# EAGLE library part CD4538BCM (library Fairchild_By_element14_Batch_1)
Dual Precision Monostable
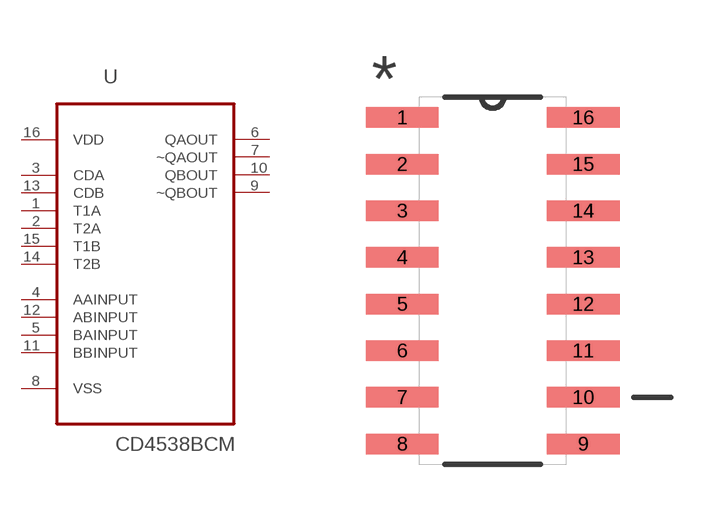
[diagram p172: symbol with the pads of SOIC127P600X175-16N; footprint SOIC127P600X175-16N]

Designator prefix U

## CD4538BCM (MPN: CD4538BCM; OC_FARNELL: -; OC_NEWARK: 82C1187; PACKAGE: SOIC-16; SUPPLIER: Fairchild)  [SOIC127P600X175-16N]
1  T1A  in
2  T2A  in
3  CDA  in
4  AAINPUT  in
5  BAINPUT  in
6  QAOUT  out
7  ~QAOUT  out
8  VSS  pwr
9  ~QBOUT  out
10  QBOUT  out
11  BBINPUT  in
12  ABINPUT  in
13  CDB  in
14  T2B  in
15  T1B  in
16  VDD  pwr

## Footprint SOIC127P600X175-16N (pad centres in mm)
smd 1.981 x 0.559: 1 -2.464,4.445; 2 -2.464,3.175; 3 -2.464,1.905; 4 -2.464,0.635; 5 -2.464,-0.635; 6 -2.464,-1.905; 7 -2.464,-3.175; 8 -2.464,-4.445; 9 2.464,-4.445; 10 2.464,-3.175; 11 2.464,-1.905; 12 2.464,-0.635; 13 2.464,0.635; 14 2.464,1.905; 15 2.464,3.175; 16 2.464,4.445